# Altium footprint library CONN_A-7478-02A_MOL.PcbLib: 1 footprints
Each footprint in its own frame and in the unit in brackets; x right, y up, seen from the top. Pads: shape width x height; smd on the part's side, far side on the other; paste and mask are expansions set on the pad; w line width, h text height; cw(c..) or ccw(c..) is an arc to the next point about the centre after c.
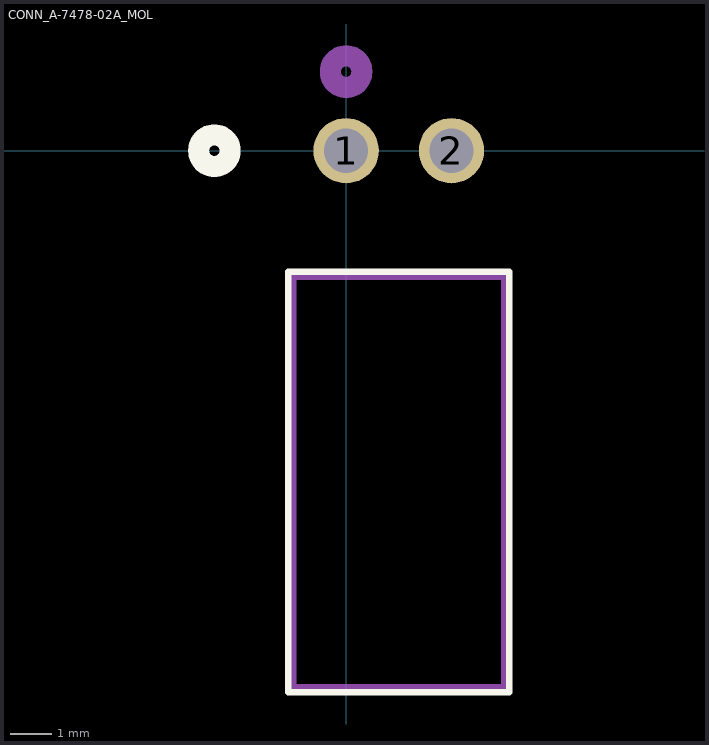
[diagram p0: the footprint, top view; thin cyan lines are the x and y axes]

## CONN_A-7478-02A_MOL [mil]
pads (2):
  round 62 hole 42: 1(0,0) 2(100,0)
Top Overlay:
  lines w6: -55,-514 155,-514 155,-115 -55,-115 -55,-514
  lines w20: -140,0 ccw(c-125,0) -110,0 ccw(c-125,0) -140,0
Bottom Overlay:
  lines w20: -140,0 ccw(c-125,0) -110,0 ccw(c-125,0) -140,0
Assembly Top:
  lines w6: -50,-509 150,-509 150,-120 -50,-120 -50,-509
  lines w20: -15,75 ccw(c0,75) 15,75 ccw(c0,75) -15,75